# EAGLE library part TSW-D-100 (library con-samtec-tsw)
HEADER
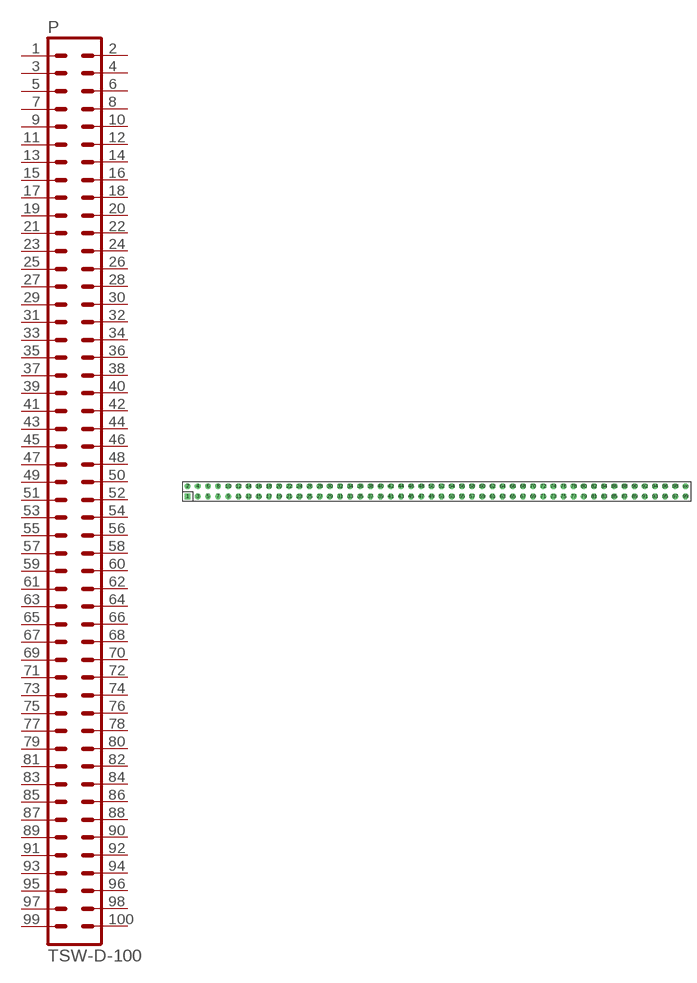
[diagram p137: symbol with the pads of TSW-D-100; footprint TSW-D-100]

Designator prefix P

## TSW-D-100  [TSW-D-100]
1  1  pas
2  2  pas
3  3  pas
4  4  pas
5  5  pas
6  6  pas
7  7  pas
8  8  pas
9  9  pas
10  10  pas
11  11  pas
12  12  pas
13  13  pas
14  14  pas
15  15  pas
16  16  pas
17  17  pas
18  18  pas
19  19  pas
20  20  pas
21  21  pas
22  22  pas
23  23  pas
24  24  pas
25  25  pas
26  26  pas
27  27  pas
28  28  pas
29  29  pas
30  30  pas
31  31  pas
32  32  pas
33  33  pas
34  34  pas
35  35  pas
36  36  pas
37  37  pas
38  38  pas
39  39  pas
40  40  pas
41  41  pas
42  42  pas
43  43  pas
44  44  pas
45  45  pas
46  46  pas
47  47  pas
48  48  pas
49  49  pas
50  50  pas
51  51  pas
52  52  pas
53  53  pas
54  54  pas
55  55  pas
56  56  pas
57  57  pas
58  58  pas
59  59  pas
60  60  pas
61  61  pas
62  62  pas
63  63  pas
64  64  pas
65  65  pas
66  66  pas
67  67  pas
68  68  pas
69  69  pas
70  70  pas
71  71  pas
72  72  pas
73  73  pas
74  74  pas
75  75  pas
76  76  pas
77  77  pas
78  78  pas
79  79  pas
80  80  pas
81  81  pas
82  82  pas
83  83  pas
84  84  pas
85  85  pas
86  86  pas
87  87  pas
88  88  pas
89  89  pas
90  90  pas
91  91  pas
92  92  pas
93  93  pas
94  94  pas
95  95  pas
96  96  pas
97  97  pas
98  98  pas
99  99  pas
100  100  pas

## Footprint TSW-D-100 (pad centres in mm)
HEADER
drill 0.914 square: 1 -62.23,-1.27
drill 0.914 octagon: 2 -62.23,1.27; 3 -59.69,-1.27; 4 -59.69,1.27; 5 -57.15,-1.27; 6 -57.15,1.27; 7 -54.61,-1.27; 8 -54.61,1.27; 9 -52.07,-1.27; 10 -52.07,1.27; 11 -49.53,-1.27; 12 -49.53,1.27; 13 -46.99,-1.27; 14 -46.99,1.27; 15 -44.45,-1.27; 16 -44.45,1.27; 17 -41.91,-1.27; 18 -41.91,1.27; 19 -39.37,-1.27; 20 -39.37,1.27; 21 -36.83,-1.27; 22 -36.83,1.27; 23 -34.29,-1.27; 24 -34.29,1.27; 25 -31.75,-1.27; 26 -31.75,1.27; 27 -29.21,-1.27; 28 -29.21,1.27; 29 -26.67,-1.27; 30 -26.67,1.27; 31 -24.13,-1.27; 32 -24.13,1.27; 33 -21.59,-1.27; 34 -21.59,1.27; 35 -19.05,-1.27; 36 -19.05,1.27; 37 -16.51,-1.27; 38 -16.51,1.27; 39 -13.97,-1.27; 40 -13.97,1.27; 41 -11.43,-1.27; 42 -11.43,1.27; 43 -8.89,-1.27; 44 -8.89,1.27; 45 -6.35,-1.27; 46 -6.35,1.27; 47 -3.81,-1.27; 48 -3.81,1.27; 49 -1.27,-1.27; 50 -1.27,1.27; 51 1.27,-1.27; 52 1.27,1.27; 53 3.81,-1.27; 54 3.81,1.27; 55 6.35,-1.27; 56 6.35,1.27; 57 8.89,-1.27; 58 8.89,1.27; 59 11.43,-1.27; 60 11.43,1.27; 61 13.97,-1.27; 62 13.97,1.27; 63 16.51,-1.27; 64 16.51,1.27; 65 19.05,-1.27; 66 19.05,1.27; 67 21.59,-1.27; 68 21.59,1.27; 69 24.13,-1.27; 70 24.13,1.27; 71 26.67,-1.27; 72 26.67,1.27; 73 29.21,-1.27; 74 29.21,1.27; 75 31.75,-1.27; 76 31.75,1.27; 77 34.29,-1.27; 78 34.29,1.27; 79 36.83,-1.27; 80 36.83,1.27; 81 39.37,-1.27; 82 39.37,1.27; 83 41.91,-1.27; 84 41.91,1.27; 85 44.45,-1.27; 86 44.45,1.27; 87 46.99,-1.27; 88 46.99,1.27; 89 49.53,-1.27; 90 49.53,1.27; 91 52.07,-1.27; 92 52.07,1.27; 93 54.61,-1.27; 94 54.61,1.27; 95 57.15,-1.27; 96 57.15,1.27; 97 59.69,-1.27; 98 59.69,1.27; 99 62.23,-1.27; 100 62.23,1.27